# Altium footprint library XDCR_AI-1223-TWT-5V-5-R.PcbLib: 1 footprints
Each footprint in its own frame and in the unit in brackets; x right, y up, seen from the top. Pads: shape width x height; smd on the part's side, far side on the other; paste and mask are expansions set on the pad; w line width, h text height; cw(c..) or ccw(c..) is an arc to the next point about the centre after c.
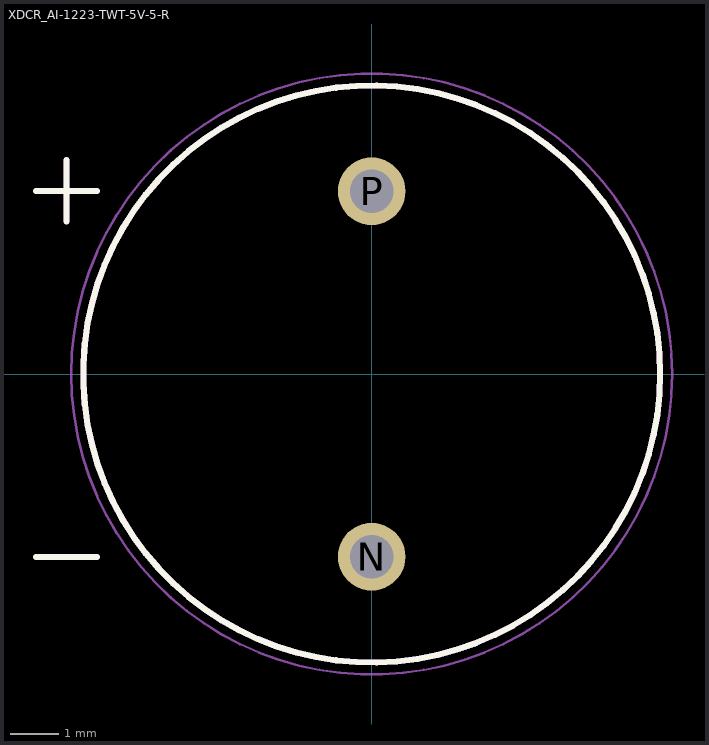
[diagram p0: the footprint, top view; thin cyan lines are the x and y axes]

## XDCR_AI-1223-TWT-5V-5-R [mm]
pads (2):
  round 1.408 hole 0.9: N(0,-3.8) P(0,3.8)
Top Overlay:
  circle w0.127: c0,0 r6
  lines w0.127: -6.985,-3.81 -5.715,-3.81 ; -6.985,3.81 -5.715,3.81 ; -6.35,3.175 -6.35,4.445
Mechanical 13:
  circle w0.127: c0,0 r6
  lines w0.127: -6.985,-3.81 -5.715,-3.81 ; -6.985,3.81 -5.715,3.81 ; -6.35,3.175 -6.35,4.445
Mechanical 15:
  circle w0.05: c0,0 r6.25
3D body "step_temp.STEP": height 9.56, standoff -5.99, extent -6.028,-5.947 5.969,7.493